# Altium footprint library MINI_360.PcbLib: 1 footprints
Each footprint in its own frame and in the unit in brackets; x right, y up, seen from the top. Pads: shape width x height; smd on the part's side, far side on the other; paste and mask are expansions set on the pad; w line width, h text height; cw(c..) or ccw(c..) is an arc to the next point about the centre after c.
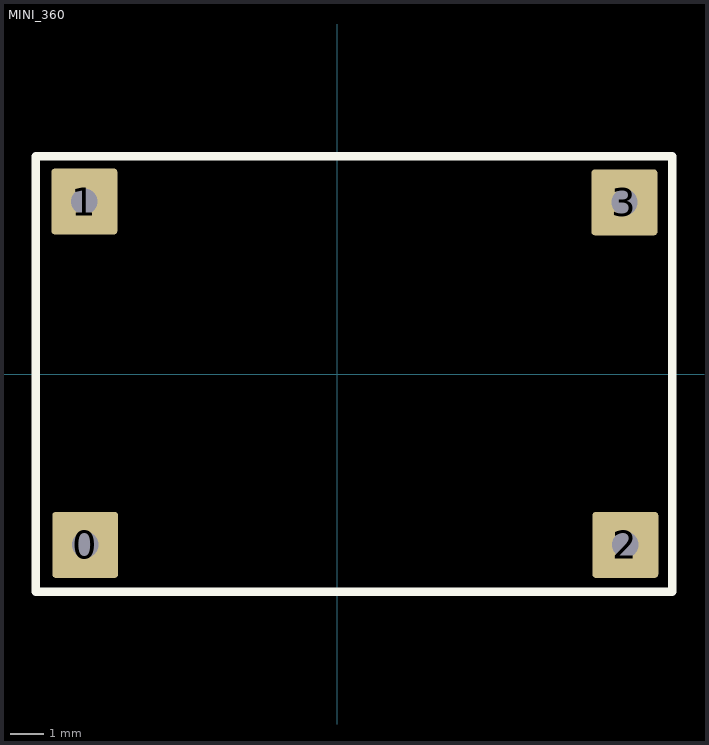
[diagram p0: the footprint, top view; thin cyan lines are the x and y axes]

## MINI_360 [mm]
pads (4):
  rrect10% 2x2 hole 0.8: 0(-7.645,-5.182) 1(-7.671,5.232) 2(8.738,-5.182) 3(8.712,5.207)
Top Overlay:
  lines w0.254: -8.89,6.604 10.16,6.604 10.16,-6.604 -9.144,-6.604 -9.144,6.604 -8.382,6.604
3D body "MIni - 360.step": height 3.75, standoff 0, extent -8.458,-5.98 9.542,6.02